# Altium footprint library mod.PcbLib: 3 footprints
Each footprint in its own frame and in the unit in brackets; x right, y up, seen from the top. Pads: shape width x height; smd on the part's side, far side on the other; paste and mask are expansions set on the pad; w line width, h text height; cw(c..) or ccw(c..) is an arc to the next point about the centre after c.
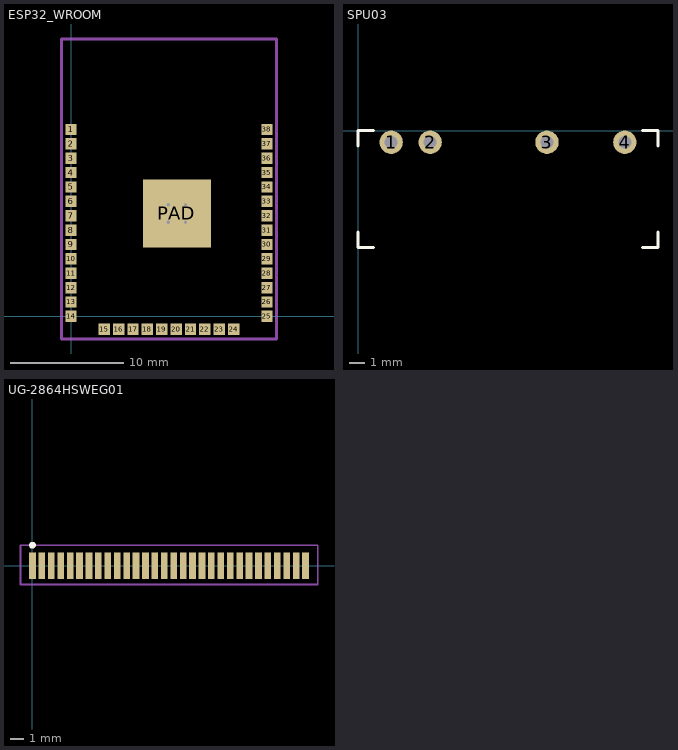
[diagram p0: the footprints below, top view; thin cyan lines are the x and y axes]

## ESP32_WROOM [mm] "ESP32 WROOM Module Board"
pads (39):
  rect 1x1 smd: 1(0,16.51) 2(0,15.24) 3(0,13.97) 4(0,12.7) 5(0,11.43) 6(0,10.16) 7(0,8.89) 8(0,7.62) 9(0,6.35) 10(0,5.08) 11(0,3.81) 12(0,2.54) 13(0,1.27) 14(0,0) 15(2.93,-1.15) 16(4.2,-1.15) 17(5.47,-1.15) 18(6.74,-1.15) 19(8.01,-1.15) 20(9.28,-1.15) 21(10.55,-1.15) 22(11.82,-1.15) 23(13.09,-1.15) 24(14.36,-1.15) 25(17.3,0) 26(17.3,1.27) 27(17.3,2.54) 28(17.3,3.81) 29(17.3,5.08) 30(17.3,6.35) 31(17.3,7.62) 32(17.3,8.89) 33(17.3,10.16) 34(17.3,11.43) 35(17.3,12.7) 36(17.3,13.97) 37(17.3,15.24) 38(17.3,16.51)
  rect 6x6 smd: PAD(9.35,9.1)
via 10.109,8.331 diameter 0.61 hole 0.305
via 10.109,9.855 diameter 0.61 hole 0.305
via 8.585,8.331 diameter 0.61 hole 0.305
via 8.585,9.855 diameter 0.61 hole 0.305
Mechanical 1:
  lines w0.254: -0.85,-2 -0.85,24.5 18.15,24.5 18.15,-2 -0.85,-2

## SPU03 [mil] "MEAN WELL SPU03 Series"
pads (4):
  round 60 hole 33: 1(85,-30) 2(185,-30) 3(485,-30) 4(685,-30)
Top Overlay:
  lines w8: 0,-260 0,-300 40,-300 ; 0,-40 0,0 40,0 ; 730,-300 770,-300 770,-260 ; 730,0 770,0 770,-40
3D body: height 400, standoff 0, extent 0,-300 770,0

## UG-2864HSWEG01 [mm] "30 pin, 0.7mm pitch"
pads (31):
  rect 0.5x2 smd: 1(0,0) 1(0,0) 2(0.7,0) 3(1.4,0) 4(2.1,0) 5(2.8,0) 6(3.5,0) 7(4.2,0) 8(4.9,0) 9(5.6,0) 10(6.3,0) 11(7,0) 12(7.7,0) 13(8.4,0) 14(9.1,0) 15(9.8,0) 16(10.5,0) 17(11.2,0) 18(11.9,0) 19(12.6,0) 20(13.3,0) 21(14,0) 22(14.7,0) 23(15.4,0) 24(16.1,0) 25(16.8,0) 26(17.5,0) 27(18.2,0) 28(18.9,0) 29(19.6,0) 30(20.3,0)
Top Overlay:
  circle w0.254: c0,1.524 r0.127
Mechanical 15:
  lines w0.127: -0.889,-1.397 21.209,-1.397 21.209,1.524 -0.889,1.524 -0.889,-1.397